# EAGLE library part CONNECTOR-10_?_* (library LM555-SHAYAN-NOORANI)
10 pin connector Datasheet <https://www.mouser.com/datasheet/2/276/0430451014_PCB_HEADERS-143158.pdf>
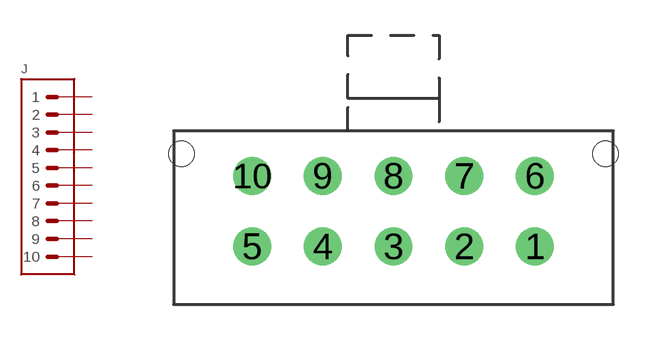
[diagram p45: symbol with the pads of MOLEX_MICROFIT_PTH_VERTICAL_10_DUAL; footprint MOLEX_MICROFIT_PTH_VERTICAL_10_DUAL]

Designator prefix J

## CONNECTOR-10_MF_T_V_ (DKPN: WM1799-ND; MANUFACTURER: MOLEX; MOPN: 538-43045-1014; MPN: 430451014)  [MOLEX_MICROFIT_PTH_VERTICAL_10_DUAL]
1  1  pas
2  2  pas
3  3  pas
4  4  pas
5  5  pas
6  6  pas
7  7  pas
8  8  pas
9  9  pas
10  10  pas

## Footprint MOLEX_MICROFIT_PTH_VERTICAL_10_DUAL (pad centres in mm)
10 Pin Micro-Fit Vertical Header, Through-Hole, Dual Row Part <https://www.molex.com/molex/products/part-detail/pcb_headers/0430451014> Footprint <https://www.molex.com/pdm_docs/sd/430451014_sd.pdf> Plug Size <https://www.molex.com/pdm_docs/sd/430251000_sd.pdf>
drill 1.067: 1 5.994,-2.997; 2 2.997,-2.997; 3 0,-2.997; 4 -2.997,-2.997; 5 -5.994,-2.997; 6 5.994,0; 7 2.997,0; 8 0,0; 9 -2.997,0; 10 -5.994,0
hole 1.067 at 8.992,0.94
hole 1.067 at -8.992,0.94